# EAGLE library part IDC10 (library den)
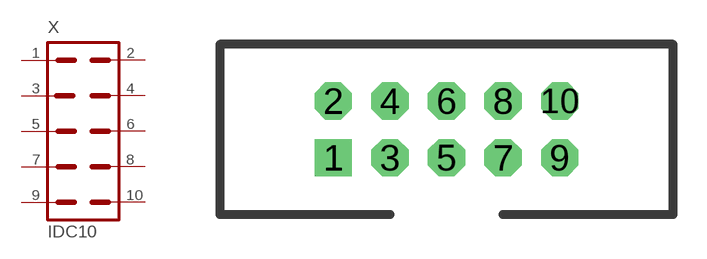
[diagram p8: symbol with the pads of IDC10; footprint IDC10]

Designator prefix X

## IDC10  [IDC10]
1  1  pas
2  2  pas
3  3  pas
4  4  pas
5  5  pas
6  6  pas
7  7  pas
8  8  pas
9  9  pas
10  10  pas

## Footprint IDC10 (pad centres in mm)
drill 1 pad 1.676 square: 1 -5.08,-1.27
drill 1 pad 1.676 octagon: 2 -5.08,1.27; 3 -2.54,-1.27; 4 -2.54,1.27; 5 0,-1.27; 6 0,1.27; 7 2.54,-1.27; 8 2.54,1.27; 9 5.08,-1.27; 10 5.08,1.27